# EAGLE library part TOUCHPANNEL_4_1 (library Touch pannel_V0.1)
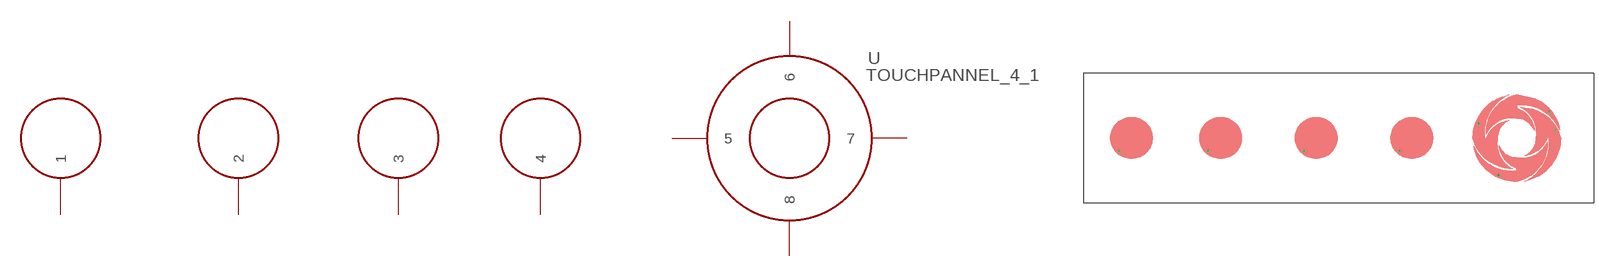
[diagram p6: symbol with the pads of TOUCHPANNEL_4_1; footprint TOUCHPANNEL_4_1]

Designator prefix -

## TOUCHPANNEL_4_1  [TOUCHPANNEL_4_1]
1  1  out
2  2  out
3  3  out
4  4  out
5  5  out
6  6  out
7  7  out
8  8  out

## Footprint TOUCHPANNEL_4_1 (pad centres in mm)
drill 0.305: 1 -62.484,-5.334; 2 -34.512,-5.334; 3 -4.54,-5.334; 4 25.432,-5.334; 5 50.317,3.15; 6 72.314,6.96; 7 74.346,1.245; 8 56.464,-12.979